# Altium schematic symbol library Nhat_Lib.SchLib: 64 symbols
Pins are listed as number, name and electrical type; pins without a type are passive.

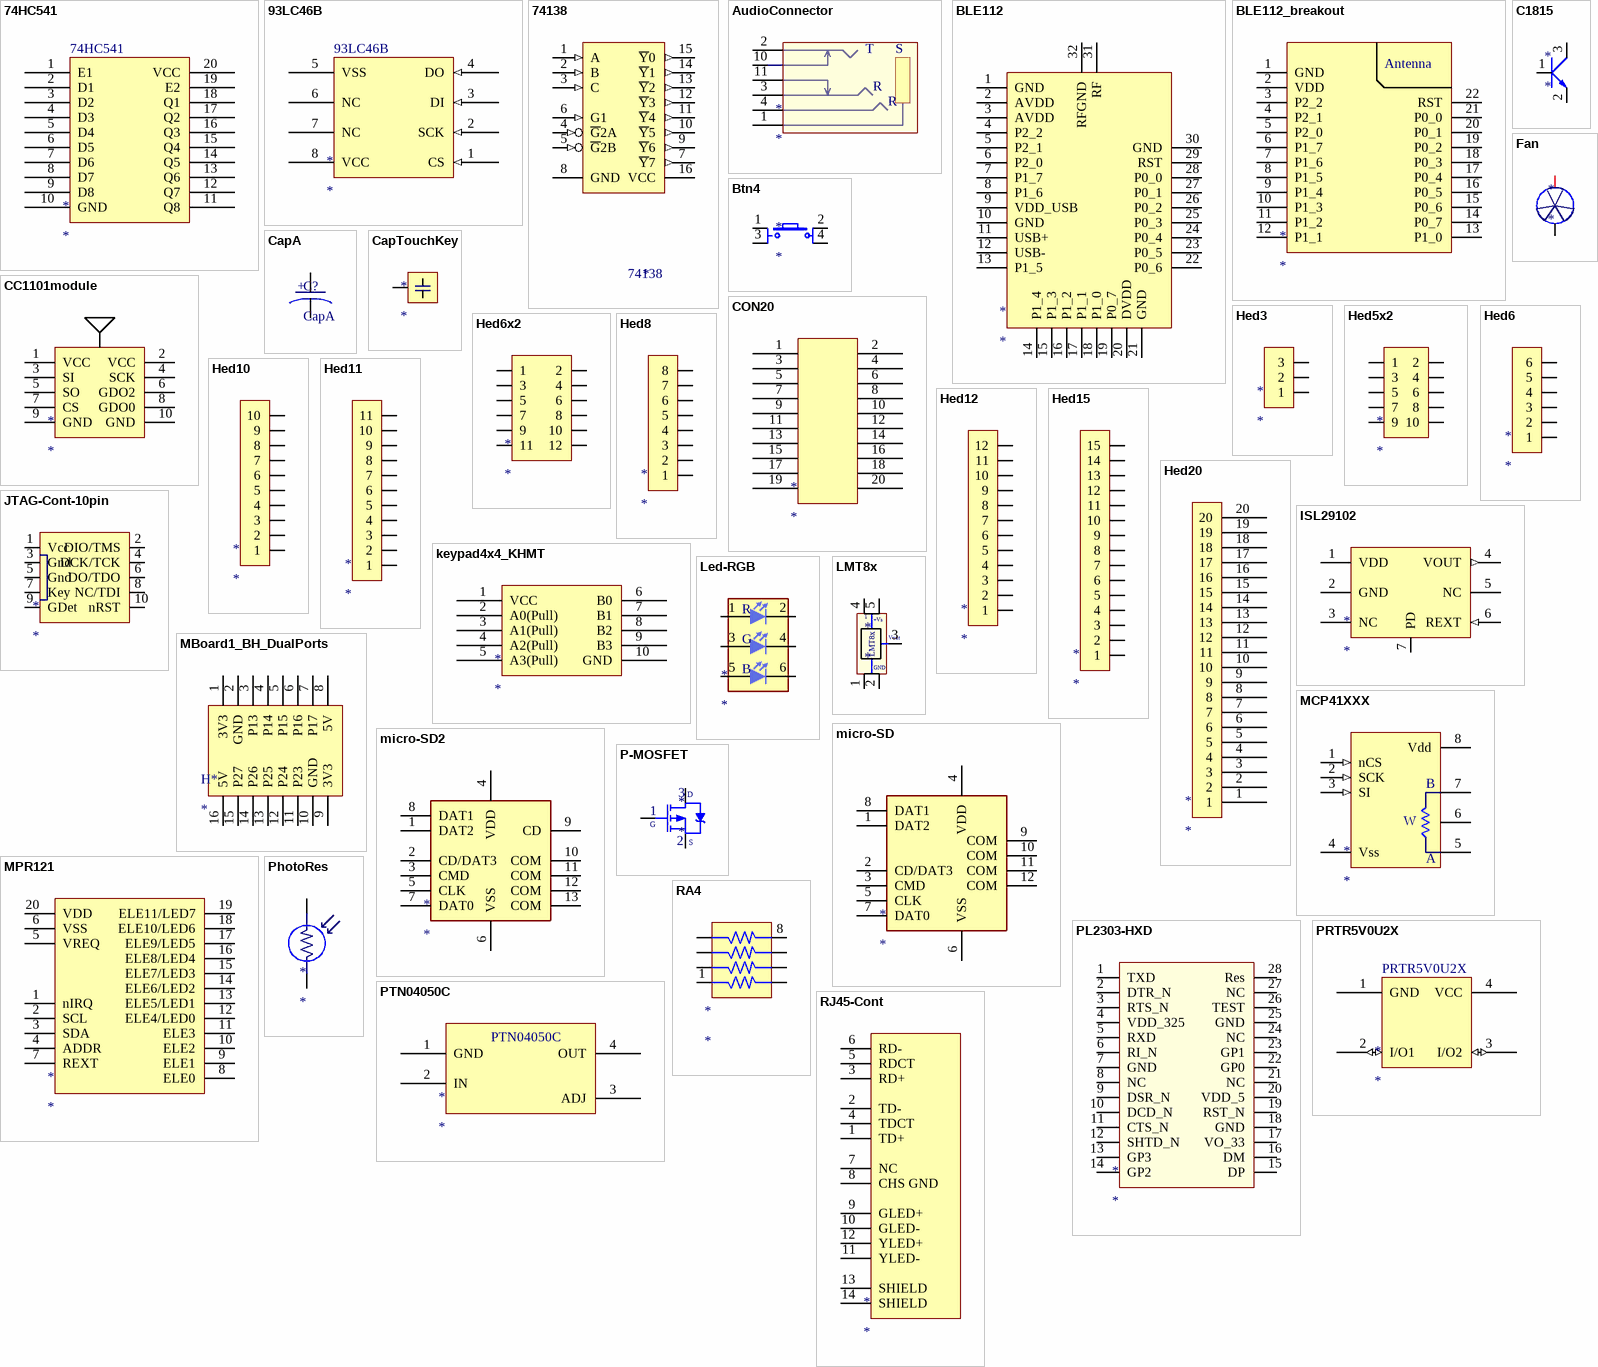
[diagram p0: symbols 74HC541 to RJ45-Cont]

## 74HC541
designator *
footprint SOL-20
pins: 1 E1, 2 D1, 3 D2, 4 D3, 5 D4, 6 D5, 7 D6, 8 D7, 9 D8, 10 GND, 11 Q8, 12 Q7, 13 Q6, 14 Q5, 15 Q4, 16 Q3, 17 Q2, 18 Q1, 19 E2, 20 VCC

## 93LC46B
designator *
footprint SO-8
pins: 1 CS (in), 2 SCK (in), 3 DI (in), 4 DO (in), 5 VSS (power), 6 NC (power), 7 NC (power), 8 VCC (power)

## 74138
designator *
3 -to- 8 Decoder - Out Low; Value: 74138; Copyright by: VanDungEvn@Gmail.com
footprint SO-16
pins: 1 A (in), 2 B (in), 3 C (in), 4 ~{G}2A (in), 5 ~{G}2B (in), 6 G1 (in), 7 ~{Y}7 (out), 8 GND (power) hidden to GND, 9 ~{Y}6 (out), 10 ~{Y}5 (out), 11 ~{Y}4 (out), 12 ~{Y}3 (out), 13 ~{Y}2 (out), 14 ~{Y}1 (out), 15 ~{Y}0 (out), 16 VCC

## AudioConnector
designator *
footprint AudioConnector (Stereo Jack 3.5mm)
pins: 1 S, 2 T, 3 R, 4 R, 10 R, 11 R

## BLE112
designator *
footprint BLE112
pins: 1 GND, 2 AVDD, 3 AVDD, 4 P2_2, 5 P2_1, 6 P2_0, 7 P1_7, 8 P1_6, 9 VDD_USB, 10 GND, 11 USB+, 12 USB-, 13 P1_5, 14 P1_4, 15 P1_3, 16 P1_2, 17 P1_1, 18 P1_0, 19 P0_7, 20 DVDD, 21 GND, 22 P0_6, 23 P0_5, 24 P0_4, 25 P0_3, 26 P0_2, 27 P0_1, 28 P0_0, 29 RST, 30 GND, 31 RF, 32 RFGND

## BLE112_breakout
designator *
footprint BLE112_breakout
pins: 1 GND, 2 VDD, 3 P2_2, 4 P2_1, 5 P2_0, 6 P1_7, 7 P1_6, 8 P1_5, 9 P1_4, 10 P1_3, 11 P1_2, 12 P1_1, 13 P1_0, 14 P0_7, 15 P0_6, 16 P0_5, 17 P0_4, 18 P0_3, 19 P0_2, 20 P0_1, 21 P0_0, 22 RST
text: Antenna

## Btn4
designator *
footprint Btn-waterproof-smd
pins: 1 Tab, 2 Tab, 3 Tab, 4 Tab

## C1815
designator *
footprint SOT23
pins: 1 B, 2 E, 3 C

## CapA
designator C?
Value: 100uF/35V
footprint Cap-Alu-D8 (Size D8, 100uF.)
pins: 1 +, 2 -

## CapTouchKey
designator *
footprint CapTouchKey_5x5
pins: 1

## CC1101module
designator *
footprint CC1101module
pins: 1 VCC, 2 VCC, 3 SI, 4 SCK, 5 SO, 6 GDO2, 7 CS, 8 GDO0, 9 GND, 10 GND

## CON20
designator *
footprint CON20
pins: 1 9 (power), 2 10 (power), 3 11 (power), 4 12 (power), 5 13 (power), 6 14 (power), 7 15 (power), 8 16 (power), 9 17 (power), 10 18 (power), 11 19 (power), 12 20 (power), 13 21 (power), 14 22 (power), 15 23 (power), 16 24 (power), 17 25 (power), 18 26 (power), 19 27 (power), 20 28 (power)

## Fan
designator *
pins: 1, 2

## Hed3
designator *
footprint Hed3
pins: 1, 2, 3

## Hed5x2
designator *
footprint Hed5x2
pins: 1, 2, 3, 4, 5, 6, 7, 8, 9, 10

## Hed6
designator *
footprint Hed6 (Header 6 pin 2.54mm)
pins: 1, 2, 3, 4, 5, 6

## Hed6x2
designator *
footprint Hed6x2
pins: 1, 2, 3, 4, 5, 6, 7, 8, 9, 10, 11, 12

## Hed8
designator *
footprint Hed8
pins: 1, 2, 3, 4, 5, 6, 7, 8

## Hed10
designator *
footprint Hed10-M
footprint Hed10-2mm
pins: 1, 2, 3, 4, 5, 6, 7, 8, 9, 10

## Hed11
designator *
footprint Hed11-M
footprint Hed11-F
pins: 1, 2, 3, 4, 5, 6, 7, 8, 9, 10, 11

## Hed12
designator *
footprint Hed12-M
pins: 1, 2, 3, 4, 5, 6, 7, 8, 9, 10, 11, 12

## Hed15
designator *
footprint Hed15-2mm
pins: 1, 2, 3, 4, 5, 6, 7, 8, 9, 10, 11, 12, 13, 14, 15

## Hed20
designator *
footprint Hed20 (Header 20 pin 2.54mm)
pins: 1, 2, 3, 4, 5, 6, 7, 8, 9, 10, 11, 12, 13, 14, 15, 16, 17, 18, 19, 20

## ISL29102
designator *
Intersil ISL29102 Ambient light sensor (Voltage output)
pins: 1 VDD (power), 2 GND (power), 3 NC, 4 VOUT (out), 5 NC, 6 REXT (in), 7 PD

## JTAG-Cont-10pin
designator *
footprint Hed5x2-ra
pins: 1 Vcc, 2 DIO/TMS, 3 Gnd, 4 DCK/TCK, 5 Gnd, 6 DO/TDO, 7 Key, 8 NC/TDI, 9 GDet, 10 nRST

## keypad4x4_KHMT
designator *
footprint Keypad4x4-KHMT
pins: 1 VCC, 2 A0(Pull), 3 A1(Pull), 4 A2(Pull), 5 A3(Pull), 6 B0, 7 B1, 8 B2, 9 B3, 10 GND

## Led-RGB
designator *
pins: 1 A, 2 K, 3 A, 4 K, 5 A, 6 K
text: R; G; B

## LMT8x
designator *
footprint SC70-5
pins: 1 -, 2 -, 3 Vout, 4 +Vs, 5 +Vs
text: GND

## MBoard1_BH_DualPorts
designator H*
footprint MBoard1_BH_DualPorts
pins: 1 3V3, 2 GND, 3 P13, 4 P14, 5 P15, 6 P16, 7 P17, 8 5V, 9 3V3, 10 GND, 11 P23, 12 P24, 13 P25, 14 P26, 15 P27, 16 5V

## MCP41XXX
designator *
footprint SO-8
pins: 1 nCS (in), 2 SCK (in), 3 SI (in), 4 Vss (power), 5 PA0, 6 PW0, 7 PB0, 8 Vdd (power)
text: B; W; A

## micro-SD
designator *
footprint micro-SD
pins: 1 DAT2, 2 CD/DAT3, 3 CMD, 4 VDD, 5 CLK, 6 VSS, 7 DAT0, 8 DAT1, 9 COM, 10 COM, 11 COM, 12 COM

## micro-SD2
designator *
footprint Micro-SD2
pins: 1 DAT2, 2 CD/DAT3, 3 CMD, 4 VDD, 5 CLK, 6 VSS, 7 DAT0, 8 DAT1, 9 CD, 10 COM, 11 COM, 12 COM, 13 COM

## MPR121
designator *
footprint QFN20
pins: 1 nIRQ, 2 SCL, 3 SDA, 4 ADDR, 5 VREQ, 6 VSS (power), 7 REXT, 8 ELE0, 9 ELE1, 10 ELE2, 11 ELE3, 12 ELE4/LED0, 13 ELE5/LED1, 14 ELE6/LED2, 15 ELE7/LED3, 16 ELE8/LED4, 17 ELE9/LED5, 18 ELE10/LED6, 19 ELE11/LED7, 20 VDD (power)

## P-MOSFET
designator *
footprint SOT23
pins: 1 G, 2 S, 3 D

## PhotoRes
designator *
pins: 1 7, 2 8

## PL2303-HXD
designator *
footprint SSOP-28
pins: 1 TXD, 2 DTR_N, 3 RTS_N, 4 VDD_325, 5 RXD, 6 RI_N, 7 GND, 8 NC, 9 DSR_N, 10 DCD_N, 11 CTS_N, 12 SHTD_N, 13 GP3, 14 GP2, 15 DP, 16 DM, 17 VO_33, 18 GND, 19 RST_N, 20 VDD_5, 21 NC, 22 GP0, 23 GP1, 24 NC, 25 GND, 26 TEST, 27 NC, 28 Res

## PRTR5V0U2X
designator *
Ultra low capacitance double rail-to-rail ESD protection diode
pins: 1 GND (power), 2 I/O1 (io), 3 I/O2 (io), 4 VCC (power)

## PTN04050C
designator *
footprint PTN04050C
pins: 1 GND, 2 IN, 3 ADJ, 4 OUT

## RA4
designator *
footprint RA4 (Resistor Array (0603x4) form TME)
pins: 1, 2, 3, 4, 5, 6, 7, 8

## RJ45-Cont
designator *
footprint RJ45-Cont
pins: 1 TD+, 2 TD-, 3 RD+, 4 TDCT, 5 RDCT, 6 RD-, 7 NC, 8 CHS GND, 9 GLED+, 10 GLED-, 11 YLED-, 12 YLED+, 13 SHIELD, 14 SHIELD

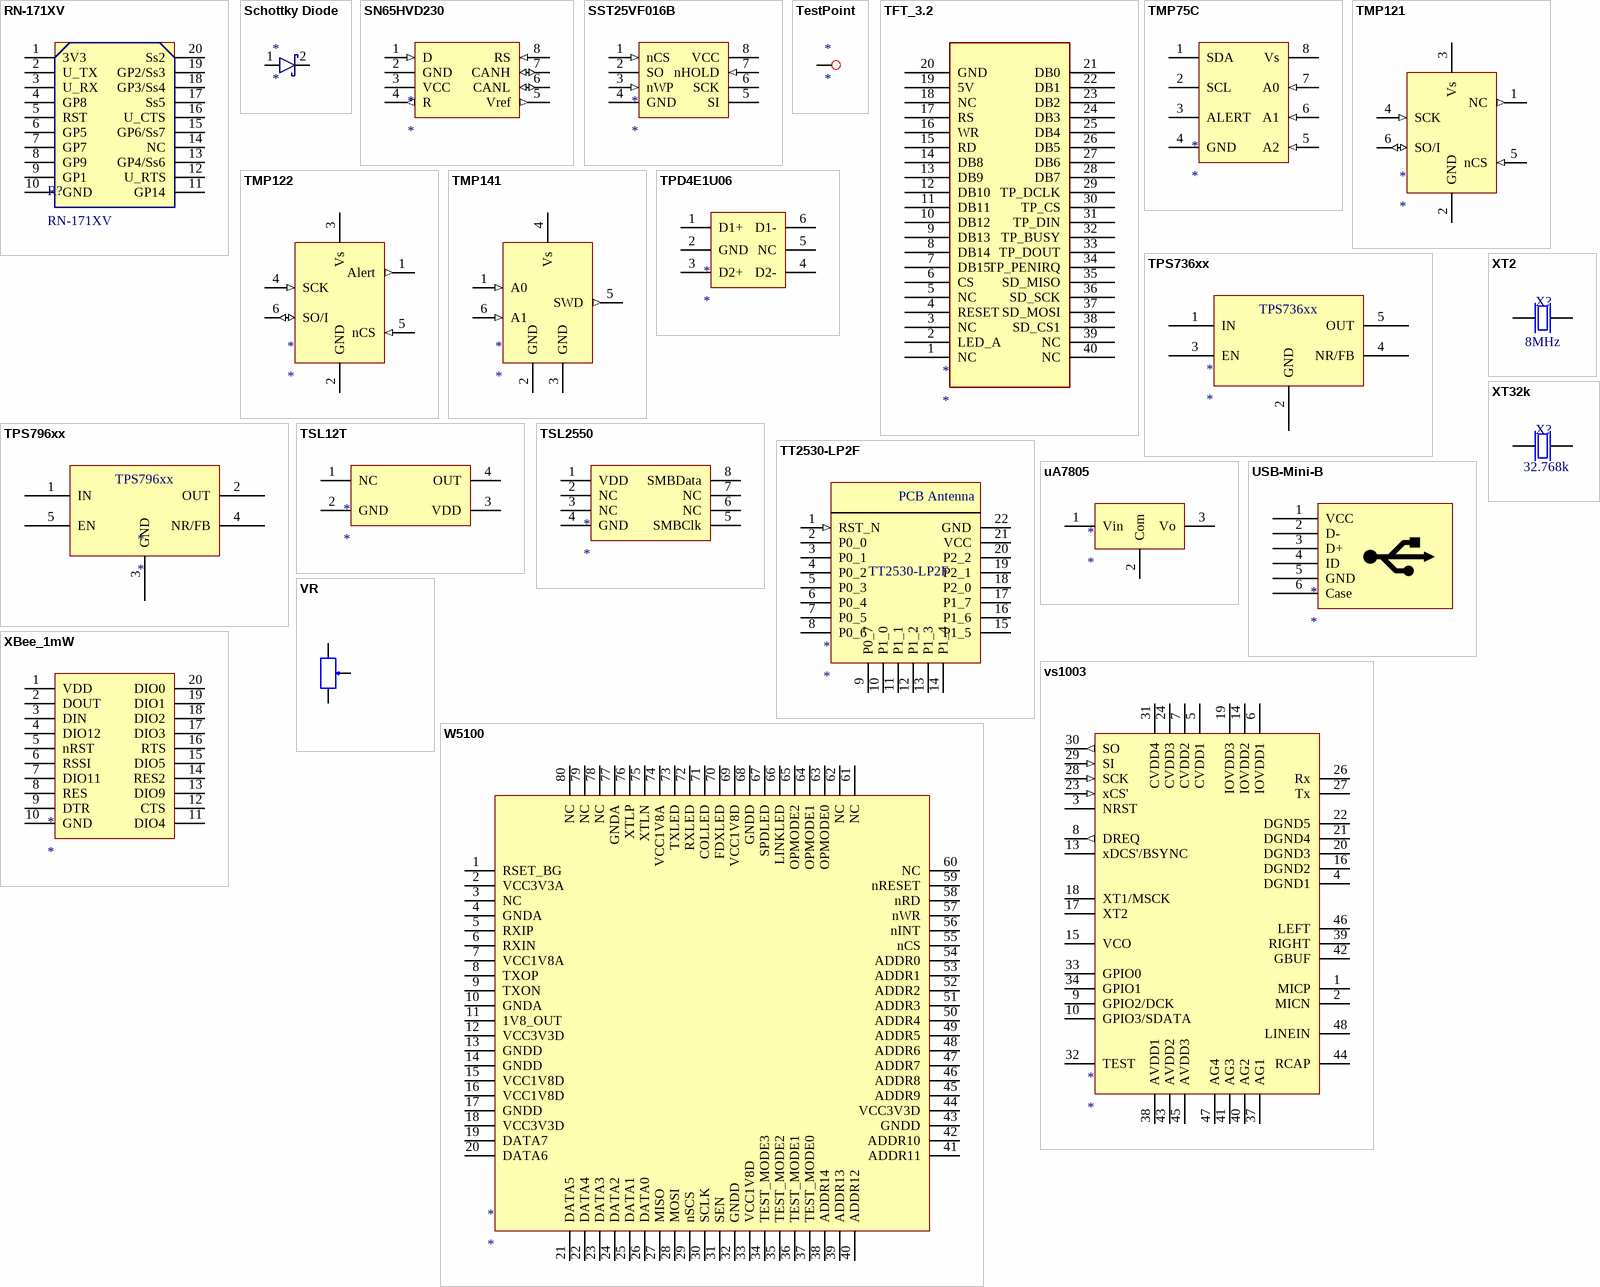
[diagram p1: symbols RN-171XV to XT32k]

## RN-171XV
designator R?
footprint RN-171XV
pins: 1 3V3, 2 U_TX, 3 U_RX, 4 GP8, 5 RST, 6 GP5, 7 GP7, 8 GP9, 9 GP1, 10 GND, 11 GP14, 12 U_RTS, 13 GP4/Ss6, 14 NC, 15 GP6/Ss7, 16 U_CTS, 17 Ss5, 18 GP3/Ss4, 19 GP2/Ss3, 20 Ss2

## Schottky Diode
designator *
footprint SOD-123
footprint DO-214AC
pins: 1, 2

## SN65HVD230
designator *
footprint SO-8
pins: 1 D (in), 2 GND, 3 VCC (power), 4 R (out), 5 Vref (out), 6 CANL (io), 7 CANH (io), 8 RS (in)

## SST25VF016B
designator *
footprint SO-8
pins: 1 nCS (in), 2 SO, 3 nWP (in), 4 GND, 5 SI, 6 SCK, 7 nHOLD (in), 8 VCC

## TestPoint
designator *
footprint TestPoint
pins: 1 0

## TFT_3.2
designator *
footprint TFT32-Header
pins: 1 NC, 2 LED_A, 3 NC, 4 RESET, 5 NC, 6 CS, 7 DB15, 8 DB14, 9 DB13, 10 DB12, 11 DB11, 12 DB10, 13 DB9, 14 DB8, 15 RD, 16 WR, 17 RS, 18 NC, 19 5V, 20 GND, 21 DB0, 22 DB1, 23 DB2, 24 DB3, 25 DB4, 26 DB5, 27 DB6, 28 DB7, 29 TP_DCLK, 30 TP_CS, 31 TP_DIN, 32 TP_BUSY, 33 TP_DOUT, 34 TP_PENIRQ, 35 SD_MISO, 36 SD_SCK, 37 SD_MOSI, 38 SD_CS1, 39 NC, 40 NC

## TMP75C
designator *
footprint SO-8
pins: 1 SDA (oc), 2 SCL (oc), 3 ALERT (oc), 4 GND, 5 A2 (in), 6 A1 (in), 7 A0 (in), 8 Vs (power)

## TMP121
designator *
footprint SC70-6
pins: 1 NC (out), 2 GND (power), 3 Vs (power), 4 SCK (in), 5 nCS (in), 6 SO/I (io)

## TMP122
designator *
footprint SC70-6
pins: 1 Alert (out), 2 GND (power), 3 Vs (power), 4 SCK (in), 5 nCS (in), 6 SO/I (io)

## TMP141
designator *
footprint SOT23-6
pins: 1 A0 (in), 2 GND (power), 3 GND (power), 4 Vs (power), 5 SWD (out), 6 A1 (in)

## TPD4E1U06
designator *
footprint SOT23-6
pins: 1 D1+, 2 GND, 3 D2+, 4 D2-, 5 NC, 6 D1-

## TPS736xx
designator *
footprint SOT23-DBV
pins: 1 IN, 2 GND, 3 EN, 4 NR/FB, 5 OUT

## TPS796xx
designator *
footprint SOT223-6
pins: 1 IN, 2 OUT, 3 GND, 4 NR/FB, 5 EN, 6 GND hidden to 3

## TSL12T
designator *
AMS TSL12T Ambient light sensor, Voltage output
footprint 4-LEAD SMD
pins: 1 NC, 2 GND, 3 VDD, 4 OUT

## TSL2550
designator *
footprint SO-8
pins: 1 VDD (power), 2 NC, 3 NC, 4 GND, 5 SMBClk, 6 NC, 7 NC, 8 SMBData

## TT2530-LP2F
designator *
pins: 1 RST_N (in), 2 P0_0, 3 P0_1, 4 P0_2, 5 P0_3, 6 P0_4, 7 P0_5, 8 P0_6, 9 P0_7, 10 P1_0, 11 P1_1, 12 P1_2, 13 P1_3, 14 P1_4, 15 P1_5, 16 P1_6, 17 P1_7, 18 P2_0, 19 P2_1, 20 P2_2, 21 VCC, 22 GND
text: PCB Antenna

## uA7805
designator *
pins: 1 Vin, 2 Com, 3 Vo, 4 Tab hidden to 2

## USB-Mini-B
designator *
footprint USB-mini-B
pins: 1 VCC, 2 D-, 3 D+, 4 ID, 5 GND, 6 Case (power)

## VR
designator VR?, comment 10K
Var Resistor; Value: VR 10K
footprint Potentiometer
pins: 1, 2, 3

## vs1003
designator *
footprint LQFP48_N
footprint LQFP48_L
footprint LQFP48_M
pins: 1 MICP, 2 MICN, 3 NRST, 4 DGND1, 5 CVDD1, 6 IOVDD1, 7 CVDD2, 8 DREQ (out), 9 GPIO2/DCK, 10 GPIO3/SDATA, 13 xDCS'/BSYNC, 14 IOVDD2, 15 VCO, 16 DGND2, 17 XT2, 18 XT1/MSCK, 19 IOVDD3, 20 DGND3, 21 DGND4, 22 DGND5, 23 xCS' (in), 24 CVDD3, 26 Rx, 27 Tx, 28 SCK (in), 29 SI (in), 30 SO (out), 31 CVDD4, 32 TEST, 33 GPIO0, 34 GPIO1, 37 AG1, 38 AVDD1, 39 RIGHT, 40 AG2, 41 AG3, 42 GBUF, 43 AVDD2, 44 RCAP, 45 AVDD3, 46 LEFT, 47 AG4, 48 LINEIN

## W5100
designator *
footprint LQFP80 (TSQFP, 80-Leads, Body 10.00x10.00mm, Pitch 0.40mm, IPC Medium Density)
pins: 1 RSET_BG, 2 VCC3V3A, 3 NC, 4 GNDA, 5 RXIP, 6 RXIN, 7 VCC1V8A, 8 TXOP, 9 TXON, 10 GNDA, 11 1V8_OUT, 12 VCC3V3D, 13 GNDD, 14 GNDD, 15 VCC1V8D, 16 VCC1V8D, 17 GNDD, 18 VCC3V3D, 19 DATA7, 20 DATA6, 21 DATA5, 22 DATA4, 23 DATA3, 24 DATA2, 25 DATA1, 26 DATA0, 27 MISO, 28 MOSI, 29 nSCS, 30 SCLK, 31 SEN, 32 GNDD, 33 VCC1V8D, 34 TEST_MODE3, 35 TEST_MODE2, 36 TEST_MODE1, 37 TEST_MODE0, 38 ADDR14, 39 ADDR13, 40 ADDR12, 41 ADDR11, 42 ADDR10, 43 GNDD, 44 VCC3V3D, 45 ADDR9, 46 ADDR8, 47 ADDR7, 48 ADDR6, 49 ADDR5, 50 ADDR4, 51 ADDR3, 52 ADDR2, 53 ADDR1, 54 ADDR0, 55 nCS, 56 nINT, 57 nWR, 58 nRD, 59 nRESET, 60 NC, 61 NC, 62 NC, 63 OPMODE0, 64 OPMODE1, 65 OPMODE2, 66 LINKLED, 67 SPDLED, 68 GNDD, 69 VCC1V8D, 70 FDXLED, 71 COLLED, 72 RXLED, 73 TXLED, 74 VCC1V8A, 75 XTLN, 76 XTLP, 77 GNDA, 78 NC, 79 NC, 80 NC

## XBee_1mW
designator *
footprint XBee
pins: 1 VDD, 2 DOUT, 3 DIN, 4 DIO12, 5 nRST, 6 RSSI, 7 DIO11, 8 RES, 9 DTR, 10 GND, 11 DIO4, 12 CTS, 13 DIO9, 14 RES2, 15 DIO5, 16 RTS, 17 DIO3, 18 DIO2, 19 DIO1, 20 DIO0

## XT2
designator X?, comment value 8MHz  (hidden comment: Crystal 2 pin.)
footprint HC49/US-SMD
pins: 1 Xin, 2 Xout

## XT32k
designator X?, comment value 32.768k  (hidden comment: Crystal 32.768 k)
footprint XT32-LOB (Crystal 32K, cylinder, lie on board)
pins: 1 Xin, 2 Xout